# Altium footprint library CAPAE430X550N.PcbLib: 2 footprints
Each footprint in its own frame and in the unit in brackets; x right, y up, seen from the top. Pads: shape width x height; smd on the part's side, far side on the other; paste and mask are expansions set on the pad; w line width, h text height; cw(c..) or ccw(c..) is an arc to the next point about the centre after c.
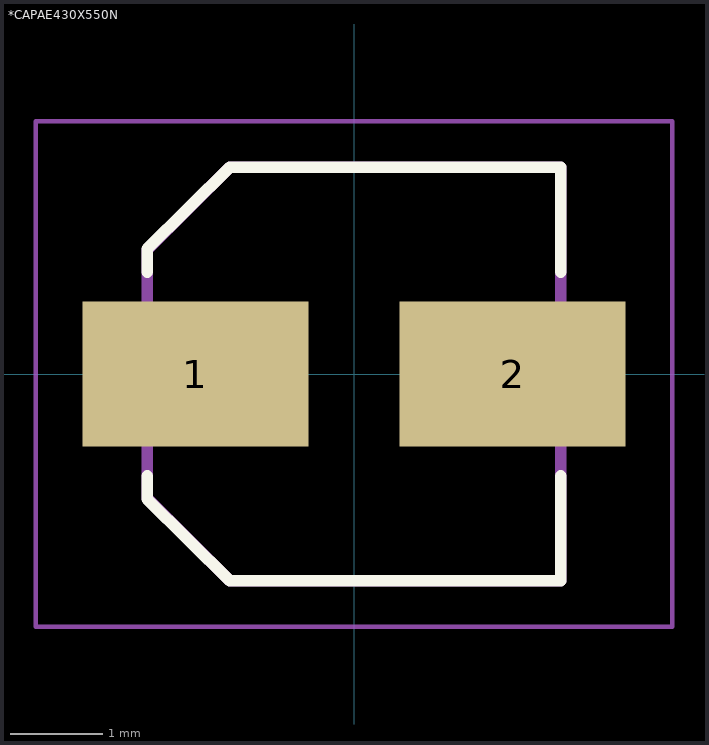
[diagram p0: the footprints below, top view; thin cyan lines are the x and y axes]

## *CAPAE430X550N [mm]
pads (2):
  rect 2.46x1.58 smd: 1(-1.725,0) 2(1.725,0)
Top Overlay:
  lines w0.127: -2.25,-1.11 -2.25,-1.36 -1.35,-2.25 2.25,-2.25 2.25,-1.11 ; -2.25,1.11 -2.25,1.36 -1.35,2.25 2.25,2.25 2.25,1.11
Mechanical 4:
  lines w0.127: -2.25,-1.35 -1.35,-2.25 ; -2.25,-1.35 -2.25,1.35 ; -2.25,-1.35 -1.35,-2.25 ; -2.25,-1.35 -2.25,1.35 ; -2.25,1.35 -1.35,2.25 ; -2.25,1.35 -1.35,2.25 ; -1.35,-2.25 2.25,-2.25 ; -1.35,-2.25 2.25,-2.25 ; -1.35,2.25 2.25,2.25 ; -1.35,2.25 2.25,2.25 ; 2.25,-2.25 2.25,2.25 ; 2.25,-2.25 2.25,2.25
Mechanical 16:
  lines w0.05: -3.46,-2.75 -3.46,2.75 3.46,2.75 3.46,-2.75 -3.46,-2.75

## PCBComponent_1 [mm]